# EAGLE library part MC74AC32DG (library 74VHC32D)
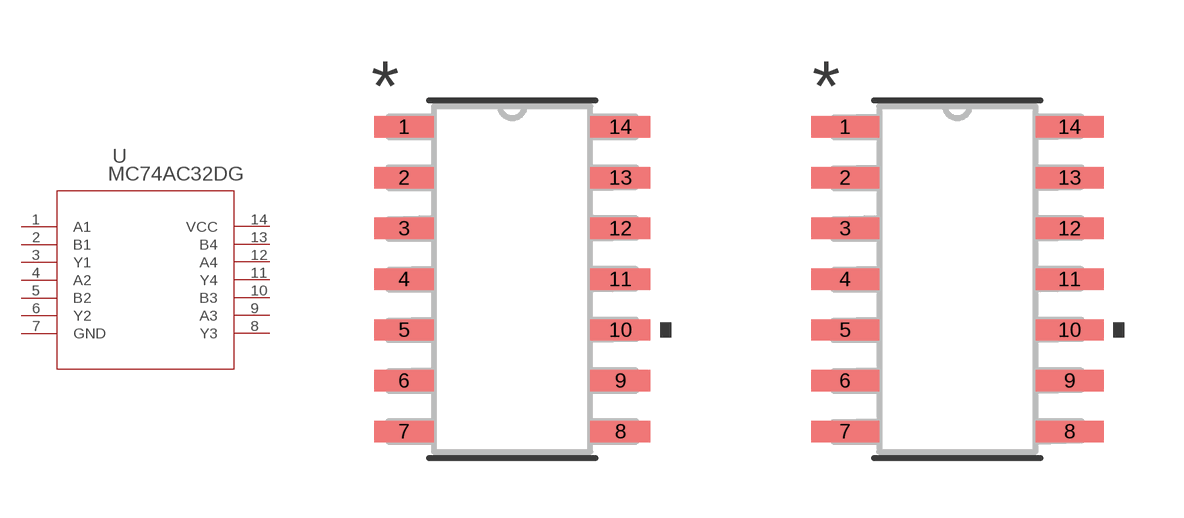
[diagram p0: symbol with the pads of SOIC-14_NB_ONS; footprints SOIC-14_NB_ONS, SOIC-14_NB_ONS-M]

Designator prefix U

## MC74AC32DG (COPYRIGHT: Copyright (C) 2016 Accelerated Designs. All rights reserved; MANUFACTURER_PART_NUMBER: MC74VHC32DR2G; SOURCELIBRARY: ONSemi_2017-12-12_1; VENDOR: ON Semiconductor)  [SOIC-14_NB_ONS]
1  A1  in
2  B1  in
3  Y1  out
4  A2  in
5  B2  in
6  Y2  out
7  GND  pwr
8  Y3  out
9  A3  in
10  B3  in
11  Y4  out
12  A4  in
13  B4  in
14  VCC  pwr

## MC74AC32DGSOIC-14_NB_ONS-M (COPYRIGHT: Copyright (C) 2016 Accelerated Designs. All rights reserved; MANUFACTURER_PART_NUMBER: MC74VHC32DR2G; SOURCELIBRARY: ONSemi_2017-12-12_1; VENDOR: ON Semiconductor)  [SOIC-14_NB_ONS-M]
Pads as for SOIC-14_NB_ONS

## MC74AC32DGSOIC-14_NB_ONS-L (COPYRIGHT: Copyright (C) 2016 Accelerated Designs. All rights reserved; MANUFACTURER_PART_NUMBER: MC74VHC32DR2G; SOURCELIBRARY: ONSemi_2017-12-12_1; VENDOR: ON Semiconductor)  [SOIC-14_NB_ONS-L]
Pads as for SOIC-14_NB_ONS

## Footprint SOIC-14_NB_ONS (pad centres in mm)
smd 1.499 x 0.533: 1 -2.705,3.81; 2 -2.705,2.54; 3 -2.705,1.27; 4 -2.705,0; 5 -2.705,-1.27; 6 -2.705,-2.54; 7 -2.705,-3.81; 8 2.705,-3.81; 9 2.705,-2.54; 10 2.705,-1.27; 11 2.705,0; 12 2.705,1.27; 13 2.705,2.54; 14 2.705,3.81

## Footprint SOIC-14_NB_ONS-M (pad centres in mm)
smd 1.702 x 0.533: 1 -2.807,3.81; 2 -2.807,2.54; 3 -2.807,1.27; 4 -2.807,0; 5 -2.807,-1.27; 6 -2.807,-2.54; 7 -2.807,-3.81; 8 2.807,-3.81; 9 2.807,-2.54; 10 2.807,-1.27; 11 2.807,0; 12 2.807,1.27; 13 2.807,2.54; 14 2.807,3.81

## Footprint SOIC-14_NB_ONS-L (pad centres in mm)
smd 1.295 x 0.483: 1 -2.603,3.81; 2 -2.603,2.54; 3 -2.603,1.27; 4 -2.603,0; 5 -2.603,-1.27; 6 -2.603,-2.54; 7 -2.603,-3.81; 8 2.603,-3.81; 9 2.603,-2.54; 10 2.603,-1.27; 11 2.603,0; 12 2.603,1.27; 13 2.603,2.54; 14 2.603,3.81